# Altium integrated library Micron Memory Parallel NOR Flash.IntLib: 720 symbols (part 192 of 216)
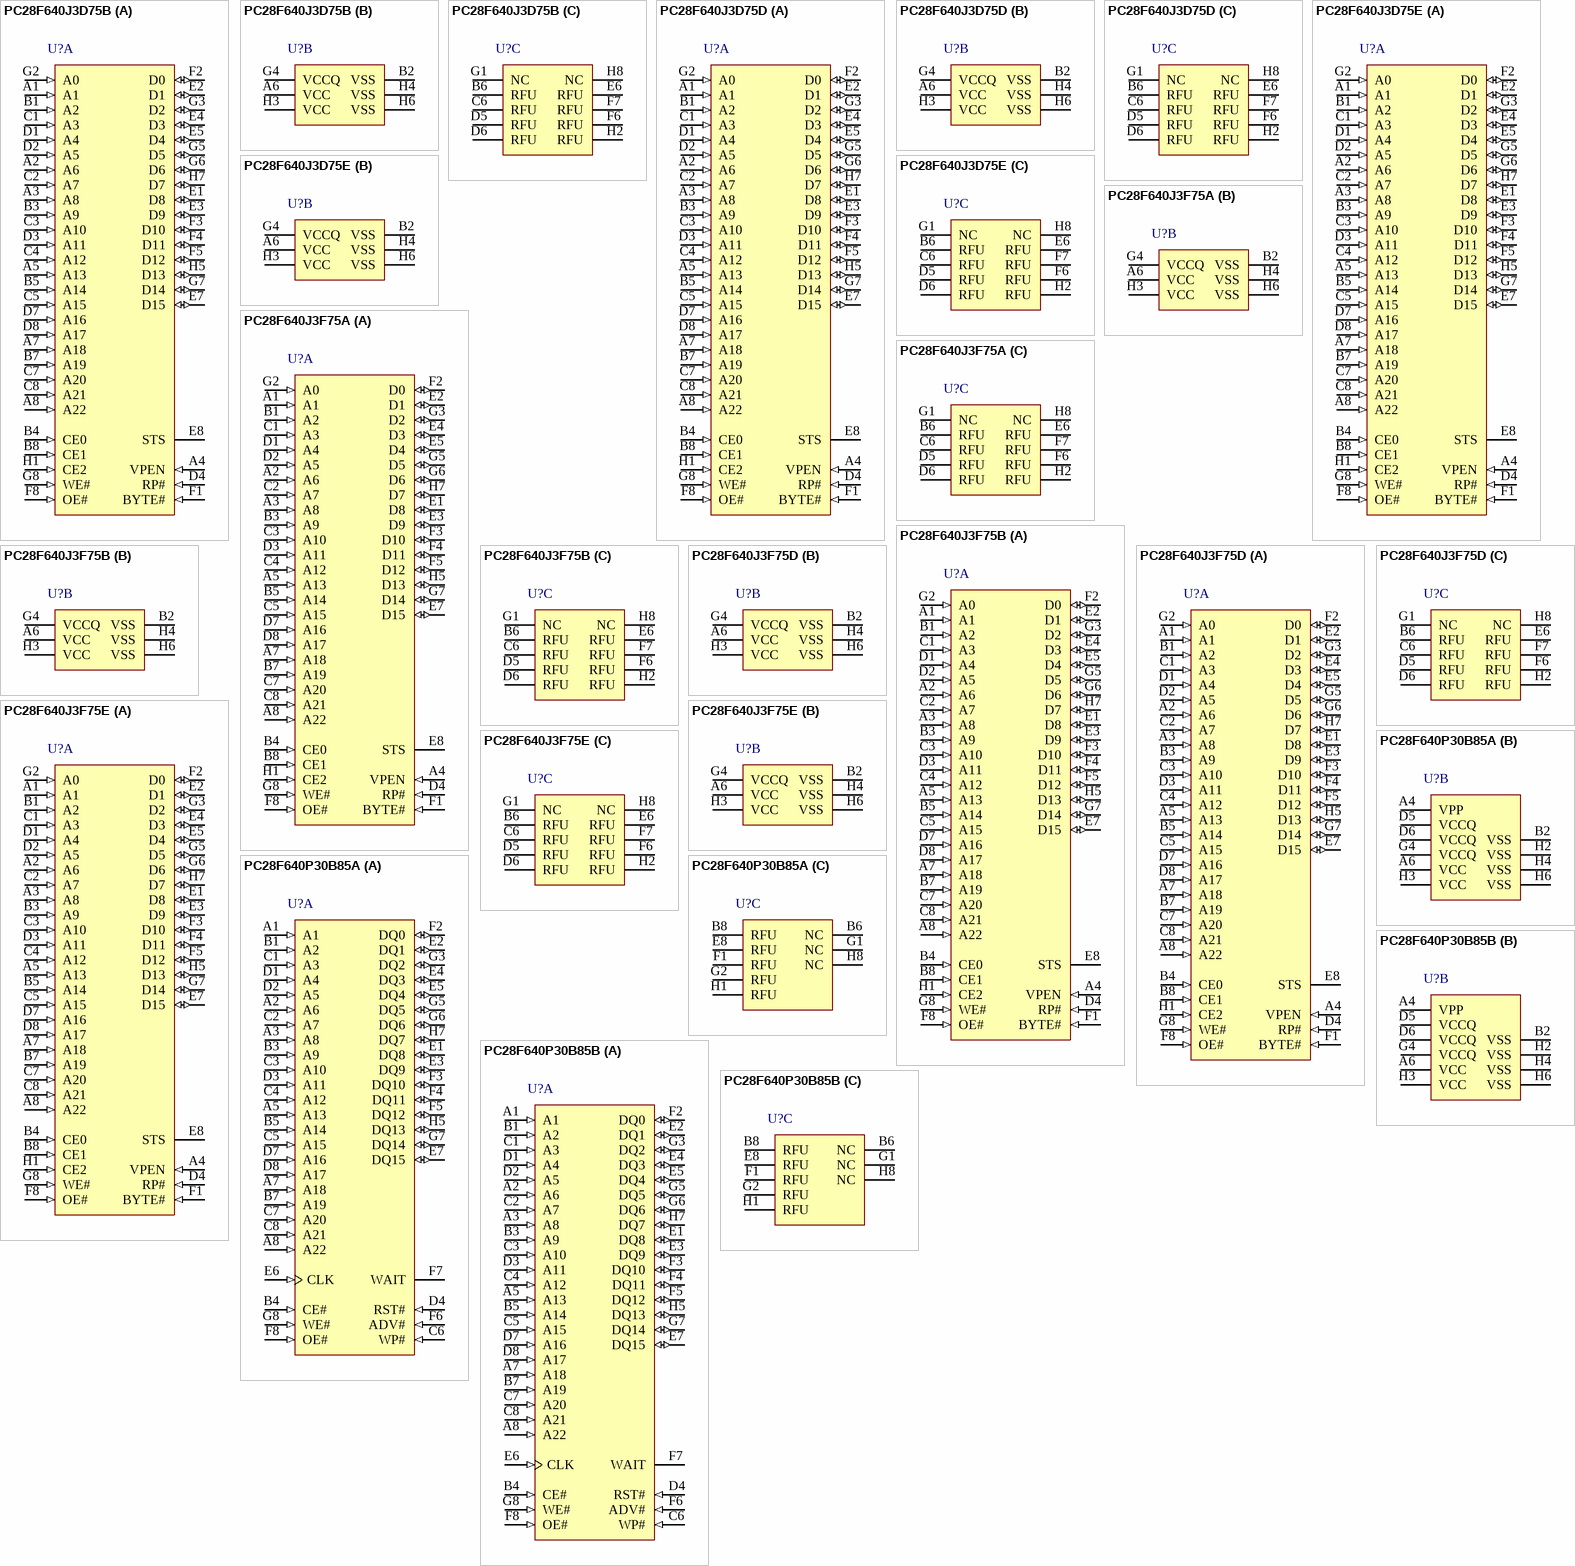
[diagram p222: symbols PC28F640J3D75B to PC28F640P30B85B]

## PC28F640J3F75A
designator U?
64 Mb (x8/x16) Parallel NOR Flash Memory, 75 ns, 2.7 to 3.6 V, 64-ball Easy BGA (PC), Tray; Part Family: J3; Manufacturer: Micron; PartNumber: PC28F640J3F75A; Density: 64Mb; Op Temp: -40C to +85C; Speed: 75ns; Voltage: 2.7V-3.6V; DatasheetVersion: Rev. 03; PackageVersion: Rev. 10; PackageReference: MICT-PC-64-13000X10000X1200DEA; PackageDescription: 64-Ball BGA, 13 x 10 mm, Pitch 1 mm; RoHS: Yes; Width: x8/x16; Mounting Technology: Surface Mount; ComponentLink1Description: Manufacturer URL; ComponentLink1URL: http://www.micron.com/; ComponentLink2Description: Datasheet; ComponentLink2URL: http://www.micron.com/~/media/Documents/Products/Data%20Sheet/NOR%20Flash/Parallel/J3/208032_J3_65_SBC_DS.pdf; ComponentLink3Description: Package Specification; ComponentLink3URL: http://www.micron.com/~/media/Documents/Products/Data%20Sheet/NOR%20Flash/Parallel/J3/316577_J3D_Monolithic_DS.pdf
footprint MICT-PC-64-13000X10000X1200DEA (BGA, 64-Balls, Body 13x10mm, Pitch 1mm)
part A pins: A1 (in) "ADDRESS INPUTS: Inputs for addresses during read and program operations. Addresses are internally latched during a program cycle: 32-Mbit -- A[21:1] 64-Mbit-- A[22:1] 128-Mbit -- A[23:1] 256-Mbit -- A[24:1]", A2 A6 (in) "ADDRESS INPUTS: Inputs for addresses during read and program operations. Addresses are internally latched during a program cycle: 32-Mbit -- A[21:1] 64-Mbit-- A[22:1] 128-Mbit -- A[23:1] 256-Mbit -- A[24:1]", A3 A8 (in) "ADDRESS INPUTS: Inputs for addresses during read and program operations. Addresses are internally latched during a program cycle: 32-Mbit -- A[21:1] 64-Mbit-- A[22:1] 128-Mbit -- A[23:1] 256-Mbit -- A[24:1]", A4 VPEN (in) "ERASE / PROGRAM / BLOCK LOCK ENABLE: For erasing array blocks, programming data, or configuring lock-bits. With VPEN =< VPENLK, memory contents cannot be altered.", A5 A13 (in) "ADDRESS INPUTS: Inputs for addresses during read and program operations. Addresses are internally latched during a program cycle: 32-Mbit -- A[21:1] 64-Mbit-- A[22:1] 128-Mbit -- A[23:1] 256-Mbit -- A[24:1]", A7 A18 (in) "ADDRESS INPUTS: Inputs for addresses during read and program operations. Addresses are internally latched during a program cycle: 32-Mbit -- A[21:1] 64-Mbit-- A[22:1] 128-Mbit -- A[23:1] 256-Mbit -- A[24:1]", A8 A22 (in) "ADDRESS INPUTS: Inputs for addresses during read and program operations. Addresses are internally latched during a program cycle: 32-Mbit -- A[21:1] 64-Mbit-- A[22:1] 128-Mbit -- A[23:1] 256-Mbit -- A[24:1]", B1 A2 (in) "ADDRESS INPUTS: Inputs for addresses during read and program operations. Addresses are internally latched during a program cycle: 32-Mbit -- A[21:1] 64-Mbit-- A[22:1] 128-Mbit -- A[23:1] 256-Mbit -- A[24:1]", B3 A9 (in) "ADDRESS INPUTS: Inputs for addresses during read and program operations. Addresses are internally latched during a program cycle: 32-Mbit -- A[21:1] 64-Mbit-- A[22:1] 128-Mbit -- A[23:1] 256-Mbit -- A[24:1]", B4 CE0 (in) "CHIP ENABLE: Activate the 32-, 64-, 128-, and 256-Mbit devices’ control logic, input buffers, decoders, and sense amplifiers. When the device is de-selected (see Table 16, “Chip Enable Truth Table for 32-, 64-, 128- and (See Datasheet)", B5 A14 (in) "ADDRESS INPUTS: Inputs for addresses during read and program operations. Addresses are internally latched during a program cycle: 32-Mbit -- A[21:1] 64-Mbit-- A[22:1] 128-Mbit -- A[23:1] 256-Mbit -- A[24:1]", B7 A19 (in) "ADDRESS INPUTS: Inputs for addresses during read and program operations. Addresses are internally latched during a program cycle: 32-Mbit -- A[21:1] 64-Mbit-- A[22:1] 128-Mbit -- A[23:1] 256-Mbit -- A[24:1]", B8 CE1 (in) "CHIP ENABLE: Activate the 32-, 64-, 128-, and 256-Mbit devices’ control logic, input buffers, decoders, and sense amplifiers. When the device is de-selected (see Table 16, “Chip Enable Truth Table for 32-, 64-, 128- and (See Datasheet)", C1 A3 (in) "ADDRESS INPUTS: Inputs for addresses during read and program operations. Addresses are internally latched during a program cycle: 32-Mbit -- A[21:1] 64-Mbit-- A[22:1] 128-Mbit -- A[23:1] 256-Mbit -- A[24:1]", C2 A7 (in) "ADDRESS INPUTS: Inputs for addresses during read and program operations. Addresses are internally latched during a program cycle: 32-Mbit -- A[21:1] 64-Mbit-- A[22:1] 128-Mbit -- A[23:1] 256-Mbit -- A[24:1]", C3 A10 (in) "ADDRESS INPUTS: Inputs for addresses during read and program operations. Addresses are internally latched during a program cycle: 32-Mbit -- A[21:1] 64-Mbit-- A[22:1] 128-Mbit -- A[23:1] 256-Mbit -- A[24:1]", C4 A12 (in) "ADDRESS INPUTS: Inputs for addresses during read and program operations. Addresses are internally latched during a program cycle: 32-Mbit -- A[21:1] 64-Mbit-- A[22:1] 128-Mbit -- A[23:1] 256-Mbit -- A[24:1]", C5 A15 (in) "ADDRESS INPUTS: Inputs for addresses during read and program operations. Addresses are internally latched during a program cycle: 32-Mbit -- A[21:1] 64-Mbit-- A[22:1] 128-Mbit -- A[23:1] 256-Mbit -- A[24:1]", C7 A20 (in) "ADDRESS INPUTS: Inputs for addresses during read and program operations. Addresses are internally latched during a program cycle: 32-Mbit -- A[21:1] 64-Mbit-- A[22:1] 128-Mbit -- A[23:1] 256-Mbit -- A[24:1]", C8 A21 (in) "ADDRESS INPUTS: Inputs for addresses during read and program operations. Addresses are internally latched during a program cycle: 32-Mbit -- A[21:1] 64-Mbit-- A[22:1] 128-Mbit -- A[23:1] 256-Mbit -- A[24:1]", D1 A4 (in) "ADDRESS INPUTS: Inputs for addresses during read and program operations. Addresses are internally latched during a program cycle: 32-Mbit -- A[21:1] 64-Mbit-- A[22:1] 128-Mbit -- A[23:1] 256-Mbit -- A[24:1]", D2 A5 (in) "ADDRESS INPUTS: Inputs for addresses during read and program operations. Addresses are internally latched during a program cycle: 32-Mbit -- A[21:1] 64-Mbit-- A[22:1] 128-Mbit -- A[23:1] 256-Mbit -- A[24:1]", D3 A11 (in) "ADDRESS INPUTS: Inputs for addresses during read and program operations. Addresses are internally latched during a program cycle: 32-Mbit -- A[21:1] 64-Mbit-- A[22:1] 128-Mbit -- A[23:1] 256-Mbit -- A[24:1]", D4 RP# (in) "RESET: RP#-low resets internal automation and puts the device in power-down mode. RP#-high enables normal operation. Exit from reset sets the device to read array mode. When driven low, RP# inhibits write operations which (See Datasheet)", D7 A16 (in) "ADDRESS INPUTS: Inputs for addresses during read and program operations. Addresses are internally latched during a program cycle: 32-Mbit -- A[21:1] 64-Mbit-- A[22:1] 128-Mbit -- A[23:1] 256-Mbit -- A[24:1]", D8 A17 (in) "ADDRESS INPUTS: Inputs for addresses during read and program operations. Addresses are internally latched during a program cycle: 32-Mbit -- A[21:1] 64-Mbit-- A[22:1] 128-Mbit -- A[23:1] 256-Mbit -- A[24:1]", E1 D8 (io) "HIGH-BYTE DATA BUS: Inputs data during x16 buffer writes and programming operations. Outputs array, CFI, or identifier data in the appropriate read mode; not used for Status Register reads. Data is internally latched during (See Datasheet)", E2 D1 (io) "LOW-BYTE DATA BUS: Inputs data during buffer writes and programming, and inputs commands during CUI writes. Outputs array, CFI, identifier, or status data in the appropriate read mode. Data is internally latched during write (See Datasheet)", E3 D9 (io) "HIGH-BYTE DATA BUS: Inputs data during x16 buffer writes and programming operations. Outputs array, CFI, or identifier data in the appropriate read mode; not used for Status Register reads. Data is internally latched during (See Datasheet)", E4 D3 (io) "LOW-BYTE DATA BUS: Inputs data during buffer writes and programming, and inputs commands during CUI writes. Outputs array, CFI, identifier, or status data in the appropriate read mode. Data is internally latched during write (See Datasheet)", E5 D4 (io) "LOW-BYTE DATA BUS: Inputs data during buffer writes and programming, and inputs commands during CUI writes. Outputs array, CFI, identifier, or status data in the appropriate read mode. Data is internally latched during write (See Datasheet)", E7 D15 (io) "HIGH-BYTE DATA BUS: Inputs data during x16 buffer writes and programming operations. Outputs array, CFI, or identifier data in the appropriate read mode; not used for Status Register reads. Data is internally latched during (See Datasheet)", E8 STS (hiz) "STATUS: Indicates the status of the internal state machine. When configured in level mode (default), it acts as a RY/BY# signal. When configured in one of its pulse modes, it can pulse to indicate program and/or erase (See Datasheet)", F1 BYTE# (in) "BYTE ENABLE: BYTE#-low places the device in x8 mode; data is input or output on D[7:0], while D[15:8] is placed in High-Z. Address A0 selects between the high and low byte. BYTE#-high places the device in x16 mode, and turns (See Datasheet)", F2 D0 (io) "LOW-BYTE DATA BUS: Inputs data during buffer writes and programming, and Inputs commands during CUI writes. Outputs array, CFI, identifier, or status data in the appropriate read mode. Data is internally latched during write (See Datasheet)", F3 D10 (io) "HIGH-BYTE DATA BUS: Inputs data during x16 buffer writes and programming operations. Outputs array, CFI, or identifier data in the appropriate read mode; not used for Status Register reads. Data is internally latched during (See Datasheet)", F4 D11 (io) "HIGH-BYTE DATA BUS: Inputs data during x16 buffer writes and programming operations. Outputs array, CFI, or identifier data in the appropriate read mode; not used for Status Register reads. Data is internally latched during (See Datasheet)", F5 D12 (io) "HIGH-BYTE DATA BUS: Inputs data during x16 buffer writes and programming operations. Outputs array, CFI, or identifier data in the appropriate read mode; not used for Status Register reads. Data is internally latched during (See Datasheet)", F8 OE# (in) "OUTPUT ENABLE: Activates the device’s outputs through the data buffers during a read cycle. OE# is active low.", G2 A0 (in) "BYTE-SELECT ADDRESS: Selects between high and low byte when the device is in x8 mode. This address is latched during a x8 program cycle. Not used in x16 mode (i.e., the A0 input buffer is turned off when BYTE# is high).", G3 D2 (io) "LOW-BYTE DATA BUS: Inputs data during buffer writes and programming, and inputs commands during CUI writes. Outputs array, CFI, identifier, or status data in the appropriate read mode. Data is internally latched during write (See Datasheet)", G5 D5 (io) "LOW-BYTE DATA BUS: Inputs data during buffer writes and programming, and inputs commands during CUI writes. Outputs array, CFI, identifier, or status data in the appropriate read mode. Data is internally latched during write (See Datasheet)", G6 D6 (io) "LOW-BYTE DATA BUS: Inputs data during buffer writes and programming, and inputs commands during CUI writes. Outputs array, CFI, identifier, or status data in the appropriate read mode. Data is internally latched during write (See Datasheet)", G7 D14 (io) "HIGH-BYTE DATA BUS: Inputs data during x16 buffer writes and programming operations. Outputs array, CFI, or identifier data in the appropriate read mode; not used for Status Register reads. Data is internally latched during (See Datasheet)", G8 WE# (in) "WRITE ENABLE: Controls writes to the CUI, the Write Buffer, and array blocks. WE# is active low.Addresses and data are latched on the rising edge of WE#.", H1 CE2 (in) "CHIP ENABLE: Activate the 32-, 64-, 128-, and 256-Mbit devices’ control logic, input buffers, decoders, and sense amplifiers. When the device is de-selected (see Table 16, “Chip Enable Truth Table for 32-, 64-, 128- and (See Datasheet)", H5 D13 (io) "HIGH-BYTE DATA BUS: Inputs data during x16 buffer writes and programming operations. Outputs array, CFI, or identifier data in the appropriate read mode; not used for Status Register reads. Data is internally latched during (See Datasheet)", H7 D7 (io) "LOW-BYTE DATA BUS: Inputs data during buffer writes and programming, and inputs commands during CUI writes. Outputs array, CFI, identifier, or status data in the appropriate read mode. Data is internally latched during write (See Datasheet)"
part B pins: A6 VCC (power) "CORE Power Supply: Core (logic) source voltage. Writes to the flash array are inhibited when VCC =< Vlko. Caution: Device operation at invalid Vcc voltages should not be attempted.", B2 VSS (power) "GROUND: Ground reference for device logic voltages. Connect to system ground.", G4 VCCQ (power) "I/O Power Supply: Power supply for Input/Output buffers.This ball can be tied directly to VCC.", H3 VCC (power) "CORE Power Supply: Core (logic) source voltage. Writes to the flash array are inhibited when VCC =< Vlko. Caution: Device operation at invalid Vcc voltages should not be attempted.", H4 VSS (power) "GROUND: Ground reference for device logic voltages. Connect to system ground.", H6 VSS (power) "GROUND: Ground reference for device logic voltages. Connect to system ground."
part C pins: B6 RFU "Reserved for Future Use: Balls designated as RFU are reserved by Numonyx for future device functionality and enhancement.", C6 RFU "Reserved for Future Use: Balls designated as RFU are reserved by Numonyx for future device functionality and enhancement.", D5 RFU "Reserved for Future Use: Balls designated as RFU are reserved by Numonyx for future device functionality and enhancement.", D6 RFU "Reserved for Future Use: Balls designated as RFU are reserved by Numonyx for future device functionality and enhancement.", E6 RFU "Reserved for Future Use: Balls designated as RFU are reserved by Numonyx for future device functionality and enhancement.", F6 RFU "Reserved for Future Use: Balls designated as RFU are reserved by Numonyx for future device functionality and enhancement.", F7 RFU "Reserved for Future Use: Balls designated as RFU are reserved by Numonyx for future device functionality and enhancement.", G1 NC "No Connect: Lead is not internally connected; it may be driven or floated.", H2 RFU "Reserved for Future Use: Balls designated as RFU are reserved by Numonyx for future device functionality and enhancement.", H8 NC "No Connect: Lead is not internally connected; it may be driven or floated."

## PC28F640J3F75B
designator U?
64 Mb (x8/x16) Parallel NOR Flash Memory, 75 ns, 2.7 to 3.6 V, 64-ball Easy BGA (PC), Tape & Reel; Part Family: J3; Manufacturer: Micron; PartNumber: PC28F640J3F75B; Density: 64Mb; Op Temp: -40C to +85C; Speed: 75ns; Voltage: 2.7V-3.6V; DatasheetVersion: Rev. 03; PackageVersion: Rev. 10; PackageReference: MICT-PC-64-13000X10000X1200DEA; PackageDescription: 64-Ball BGA, 13 x 10 mm, Pitch 1 mm; RoHS: Yes; Width: x8/x16; Mounting Technology: Surface Mount; ComponentLink1Description: Manufacturer URL; ComponentLink1URL: http://www.micron.com/; ComponentLink2Description: Datasheet; ComponentLink2URL: http://www.micron.com/~/media/Documents/Products/Data%20Sheet/NOR%20Flash/Parallel/J3/208032_J3_65_SBC_DS.pdf; ComponentLink3Description: Package Specification; ComponentLink3URL: http://www.micron.com/~/media/Documents/Products/Data%20Sheet/NOR%20Flash/Parallel/J3/316577_J3D_Monolithic_DS.pdf
footprint MICT-PC-64-13000X10000X1200DEA (BGA, 64-Balls, Body 13x10mm, Pitch 1mm)
part A pins: A1 (in) "ADDRESS INPUTS: Inputs for addresses during read and program operations. Addresses are internally latched during a program cycle: 32-Mbit -- A[21:1] 64-Mbit-- A[22:1] 128-Mbit -- A[23:1] 256-Mbit -- A[24:1]", A2 A6 (in) "ADDRESS INPUTS: Inputs for addresses during read and program operations. Addresses are internally latched during a program cycle: 32-Mbit -- A[21:1] 64-Mbit-- A[22:1] 128-Mbit -- A[23:1] 256-Mbit -- A[24:1]", A3 A8 (in) "ADDRESS INPUTS: Inputs for addresses during read and program operations. Addresses are internally latched during a program cycle: 32-Mbit -- A[21:1] 64-Mbit-- A[22:1] 128-Mbit -- A[23:1] 256-Mbit -- A[24:1]", A4 VPEN (in) "ERASE / PROGRAM / BLOCK LOCK ENABLE: For erasing array blocks, programming data, or configuring lock-bits. With VPEN =< VPENLK, memory contents cannot be altered.", A5 A13 (in) "ADDRESS INPUTS: Inputs for addresses during read and program operations. Addresses are internally latched during a program cycle: 32-Mbit -- A[21:1] 64-Mbit-- A[22:1] 128-Mbit -- A[23:1] 256-Mbit -- A[24:1]", A7 A18 (in) "ADDRESS INPUTS: Inputs for addresses during read and program operations. Addresses are internally latched during a program cycle: 32-Mbit -- A[21:1] 64-Mbit-- A[22:1] 128-Mbit -- A[23:1] 256-Mbit -- A[24:1]", A8 A22 (in) "ADDRESS INPUTS: Inputs for addresses during read and program operations. Addresses are internally latched during a program cycle: 32-Mbit -- A[21:1] 64-Mbit-- A[22:1] 128-Mbit -- A[23:1] 256-Mbit -- A[24:1]", B1 A2 (in) "ADDRESS INPUTS: Inputs for addresses during read and program operations. Addresses are internally latched during a program cycle: 32-Mbit -- A[21:1] 64-Mbit-- A[22:1] 128-Mbit -- A[23:1] 256-Mbit -- A[24:1]", B3 A9 (in) "ADDRESS INPUTS: Inputs for addresses during read and program operations. Addresses are internally latched during a program cycle: 32-Mbit -- A[21:1] 64-Mbit-- A[22:1] 128-Mbit -- A[23:1] 256-Mbit -- A[24:1]", B4 CE0 (in) "CHIP ENABLE: Activate the 32-, 64-, 128-, and 256-Mbit devices’ control logic, input buffers, decoders, and sense amplifiers. When the device is de-selected (see Table 16, “Chip Enable Truth Table for 32-, 64-, 128- and (See Datasheet)", B5 A14 (in) "ADDRESS INPUTS: Inputs for addresses during read and program operations. Addresses are internally latched during a program cycle: 32-Mbit -- A[21:1] 64-Mbit-- A[22:1] 128-Mbit -- A[23:1] 256-Mbit -- A[24:1]", B7 A19 (in) "ADDRESS INPUTS: Inputs for addresses during read and program operations. Addresses are internally latched during a program cycle: 32-Mbit -- A[21:1] 64-Mbit-- A[22:1] 128-Mbit -- A[23:1] 256-Mbit -- A[24:1]", B8 CE1 (in) "CHIP ENABLE: Activate the 32-, 64-, 128-, and 256-Mbit devices’ control logic, input buffers, decoders, and sense amplifiers. When the device is de-selected (see Table 16, “Chip Enable Truth Table for 32-, 64-, 128- and (See Datasheet)", C1 A3 (in) "ADDRESS INPUTS: Inputs for addresses during read and program operations. Addresses are internally latched during a program cycle: 32-Mbit -- A[21:1] 64-Mbit-- A[22:1] 128-Mbit -- A[23:1] 256-Mbit -- A[24:1]", C2 A7 (in) "ADDRESS INPUTS: Inputs for addresses during read and program operations. Addresses are internally latched during a program cycle: 32-Mbit -- A[21:1] 64-Mbit-- A[22:1] 128-Mbit -- A[23:1] 256-Mbit -- A[24:1]", C3 A10 (in) "ADDRESS INPUTS: Inputs for addresses during read and program operations. Addresses are internally latched during a program cycle: 32-Mbit -- A[21:1] 64-Mbit-- A[22:1] 128-Mbit -- A[23:1] 256-Mbit -- A[24:1]", C4 A12 (in) "ADDRESS INPUTS: Inputs for addresses during read and program operations. Addresses are internally latched during a program cycle: 32-Mbit -- A[21:1] 64-Mbit-- A[22:1] 128-Mbit -- A[23:1] 256-Mbit -- A[24:1]", C5 A15 (in) "ADDRESS INPUTS: Inputs for addresses during read and program operations. Addresses are internally latched during a program cycle: 32-Mbit -- A[21:1] 64-Mbit-- A[22:1] 128-Mbit -- A[23:1] 256-Mbit -- A[24:1]", C7 A20 (in) "ADDRESS INPUTS: Inputs for addresses during read and program operations. Addresses are internally latched during a program cycle: 32-Mbit -- A[21:1] 64-Mbit-- A[22:1] 128-Mbit -- A[23:1] 256-Mbit -- A[24:1]", C8 A21 (in) "ADDRESS INPUTS: Inputs for addresses during read and program operations. Addresses are internally latched during a program cycle: 32-Mbit -- A[21:1] 64-Mbit-- A[22:1] 128-Mbit -- A[23:1] 256-Mbit -- A[24:1]", D1 A4 (in) "ADDRESS INPUTS: Inputs for addresses during read and program operations. Addresses are internally latched during a program cycle: 32-Mbit -- A[21:1] 64-Mbit-- A[22:1] 128-Mbit -- A[23:1] 256-Mbit -- A[24:1]", D2 A5 (in) "ADDRESS INPUTS: Inputs for addresses during read and program operations. Addresses are internally latched during a program cycle: 32-Mbit -- A[21:1] 64-Mbit-- A[22:1] 128-Mbit -- A[23:1] 256-Mbit -- A[24:1]", D3 A11 (in) "ADDRESS INPUTS: Inputs for addresses during read and program operations. Addresses are internally latched during a program cycle: 32-Mbit -- A[21:1] 64-Mbit-- A[22:1] 128-Mbit -- A[23:1] 256-Mbit -- A[24:1]", D4 RP# (in) "RESET: RP#-low resets internal automation and puts the device in power-down mode. RP#-high enables normal operation. Exit from reset sets the device to read array mode. When driven low, RP# inhibits write operations which (See Datasheet)", D7 A16 (in) "ADDRESS INPUTS: Inputs for addresses during read and program operations. Addresses are internally latched during a program cycle: 32-Mbit -- A[21:1] 64-Mbit-- A[22:1] 128-Mbit -- A[23:1] 256-Mbit -- A[24:1]", D8 A17 (in) "ADDRESS INPUTS: Inputs for addresses during read and program operations. Addresses are internally latched during a program cycle: 32-Mbit -- A[21:1] 64-Mbit-- A[22:1] 128-Mbit -- A[23:1] 256-Mbit -- A[24:1]", E1 D8 (io) "HIGH-BYTE DATA BUS: Inputs data during x16 buffer writes and programming operations. Outputs array, CFI, or identifier data in the appropriate read mode; not used for Status Register reads. Data is internally latched during (See Datasheet)", E2 D1 (io) "LOW-BYTE DATA BUS: Inputs data during buffer writes and programming, and inputs commands during CUI writes. Outputs array, CFI, identifier, or status data in the appropriate read mode. Data is internally latched during write (See Datasheet)", E3 D9 (io) "HIGH-BYTE DATA BUS: Inputs data during x16 buffer writes and programming operations. Outputs array, CFI, or identifier data in the appropriate read mode; not used for Status Register reads. Data is internally latched during (See Datasheet)", E4 D3 (io) "LOW-BYTE DATA BUS: Inputs data during buffer writes and programming, and inputs commands during CUI writes. Outputs array, CFI, identifier, or status data in the appropriate read mode. Data is internally latched during write (See Datasheet)", E5 D4 (io) "LOW-BYTE DATA BUS: Inputs data during buffer writes and programming, and inputs commands during CUI writes. Outputs array, CFI, identifier, or status data in the appropriate read mode. Data is internally latched during write (See Datasheet)", E7 D15 (io) "HIGH-BYTE DATA BUS: Inputs data during x16 buffer writes and programming operations. Outputs array, CFI, or identifier data in the appropriate read mode; not used for Status Register reads. Data is internally latched during (See Datasheet)", E8 STS (hiz) "STATUS: Indicates the status of the internal state machine. When configured in level mode (default), it acts as a RY/BY# signal. When configured in one of its pulse modes, it can pulse to indicate program and/or erase (See Datasheet)", F1 BYTE# (in) "BYTE ENABLE: BYTE#-low places the device in x8 mode; data is input or output on D[7:0], while D[15:8] is placed in High-Z. Address A0 selects between the high and low byte. BYTE#-high places the device in x16 mode, and turns (See Datasheet)", F2 D0 (io) "LOW-BYTE DATA BUS: Inputs data during buffer writes and programming, and Inputs commands during CUI writes. Outputs array, CFI, identifier, or status data in the appropriate read mode. Data is internally latched during write (See Datasheet)", F3 D10 (io) "HIGH-BYTE DATA BUS: Inputs data during x16 buffer writes and programming operations. Outputs array, CFI, or identifier data in the appropriate read mode; not used for Status Register reads. Data is internally latched during (See Datasheet)", F4 D11 (io) "HIGH-BYTE DATA BUS: Inputs data during x16 buffer writes and programming operations. Outputs array, CFI, or identifier data in the appropriate read mode; not used for Status Register reads. Data is internally latched during (See Datasheet)", F5 D12 (io) "HIGH-BYTE DATA BUS: Inputs data during x16 buffer writes and programming operations. Outputs array, CFI, or identifier data in the appropriate read mode; not used for Status Register reads. Data is internally latched during (See Datasheet)", F8 OE# (in) "OUTPUT ENABLE: Activates the device’s outputs through the data buffers during a read cycle. OE# is active low.", G2 A0 (in) "BYTE-SELECT ADDRESS: Selects between high and low byte when the device is in x8 mode. This address is latched during a x8 program cycle. Not used in x16 mode (i.e., the A0 input buffer is turned off when BYTE# is high).", G3 D2 (io) "LOW-BYTE DATA BUS: Inputs data during buffer writes and programming, and inputs commands during CUI writes. Outputs array, CFI, identifier, or status data in the appropriate read mode. Data is internally latched during write (See Datasheet)", G5 D5 (io) "LOW-BYTE DATA BUS: Inputs data during buffer writes and programming, and inputs commands during CUI writes. Outputs array, CFI, identifier, or status data in the appropriate read mode. Data is internally latched during write (See Datasheet)", G6 D6 (io) "LOW-BYTE DATA BUS: Inputs data during buffer writes and programming, and inputs commands during CUI writes. Outputs array, CFI, identifier, or status data in the appropriate read mode. Data is internally latched during write (See Datasheet)", G7 D14 (io) "HIGH-BYTE DATA BUS: Inputs data during x16 buffer writes and programming operations. Outputs array, CFI, or identifier data in the appropriate read mode; not used for Status Register reads. Data is internally latched during (See Datasheet)", G8 WE# (in) "WRITE ENABLE: Controls writes to the CUI, the Write Buffer, and array blocks. WE# is active low.Addresses and data are latched on the rising edge of WE#.", H1 CE2 (in) "CHIP ENABLE: Activate the 32-, 64-, 128-, and 256-Mbit devices’ control logic, input buffers, decoders, and sense amplifiers. When the device is de-selected (see Table 16, “Chip Enable Truth Table for 32-, 64-, 128- and (See Datasheet)", H5 D13 (io) "HIGH-BYTE DATA BUS: Inputs data during x16 buffer writes and programming operations. Outputs array, CFI, or identifier data in the appropriate read mode; not used for Status Register reads. Data is internally latched during (See Datasheet)", H7 D7 (io) "LOW-BYTE DATA BUS: Inputs data during buffer writes and programming, and inputs commands during CUI writes. Outputs array, CFI, identifier, or status data in the appropriate read mode. Data is internally latched during write (See Datasheet)"
part B pins: A6 VCC (power) "CORE Power Supply: Core (logic) source voltage. Writes to the flash array are inhibited when VCC =< Vlko. Caution: Device operation at invalid Vcc voltages should not be attempted.", B2 VSS (power) "GROUND: Ground reference for device logic voltages. Connect to system ground.", G4 VCCQ (power) "I/O Power Supply: Power supply for Input/Output buffers.This ball can be tied directly to VCC.", H3 VCC (power) "CORE Power Supply: Core (logic) source voltage. Writes to the flash array are inhibited when VCC =< Vlko. Caution: Device operation at invalid Vcc voltages should not be attempted.", H4 VSS (power) "GROUND: Ground reference for device logic voltages. Connect to system ground.", H6 VSS (power) "GROUND: Ground reference for device logic voltages. Connect to system ground."
part C pins: B6 RFU "Reserved for Future Use: Balls designated as RFU are reserved by Numonyx for future device functionality and enhancement.", C6 RFU "Reserved for Future Use: Balls designated as RFU are reserved by Numonyx for future device functionality and enhancement.", D5 RFU "Reserved for Future Use: Balls designated as RFU are reserved by Numonyx for future device functionality and enhancement.", D6 RFU "Reserved for Future Use: Balls designated as RFU are reserved by Numonyx for future device functionality and enhancement.", E6 RFU "Reserved for Future Use: Balls designated as RFU are reserved by Numonyx for future device functionality and enhancement.", F6 RFU "Reserved for Future Use: Balls designated as RFU are reserved by Numonyx for future device functionality and enhancement.", F7 RFU "Reserved for Future Use: Balls designated as RFU are reserved by Numonyx for future device functionality and enhancement.", G1 NC "No Connect: Lead is not internally connected; it may be driven or floated.", H2 RFU "Reserved for Future Use: Balls designated as RFU are reserved by Numonyx for future device functionality and enhancement.", H8 NC "No Connect: Lead is not internally connected; it may be driven or floated."

## PC28F640J3F75D
designator U?
64 Mb (x8/x16) Parallel NOR Flash Memory, 75 ns, 2.7 to 3.6 V, 64-ball Easy BGA (PC), Tape & Reel; Part Family: J3; Manufacturer: Micron; PartNumber: PC28F640J3F75D; Density: 64Mb; Op Temp: -40C to +85C; Speed: 75ns; Voltage: 2.7V-3.6V; DatasheetVersion: Rev. 03; PackageVersion: Rev. 10; PackageReference: MICT-PC-64-13000X10000X1200DEA; PackageDescription: 64-Ball BGA, 13 x 10 mm, Pitch 1 mm; RoHS: Yes; Width: x8/x16; Mounting Technology: Surface Mount; ComponentLink1Description: Manufacturer URL; ComponentLink1URL: http://www.micron.com/; ComponentLink2Description: Datasheet; ComponentLink2URL: http://www.micron.com/~/media/Documents/Products/Data%20Sheet/NOR%20Flash/Parallel/J3/208032_J3_65_SBC_DS.pdf; ComponentLink3Description: Package Specification; ComponentLink3URL: http://www.micron.com/~/media/Documents/Products/Data%20Sheet/NOR%20Flash/Parallel/J3/316577_J3D_Monolithic_DS.pdf
footprint MICT-PC-64-13000X10000X1200DEA (BGA, 64-Balls, Body 13x10mm, Pitch 1mm)
part A pins: A1 (in) "ADDRESS INPUTS: Inputs for addresses during read and program operations. Addresses are internally latched during a program cycle: 32-Mbit -- A[21:1] 64-Mbit-- A[22:1] 128-Mbit -- A[23:1] 256-Mbit -- A[24:1]", A2 A6 (in) "ADDRESS INPUTS: Inputs for addresses during read and program operations. Addresses are internally latched during a program cycle: 32-Mbit -- A[21:1] 64-Mbit-- A[22:1] 128-Mbit -- A[23:1] 256-Mbit -- A[24:1]", A3 A8 (in) "ADDRESS INPUTS: Inputs for addresses during read and program operations. Addresses are internally latched during a program cycle: 32-Mbit -- A[21:1] 64-Mbit-- A[22:1] 128-Mbit -- A[23:1] 256-Mbit -- A[24:1]", A4 VPEN (in) "ERASE / PROGRAM / BLOCK LOCK ENABLE: For erasing array blocks, programming data, or configuring lock-bits. With VPEN =< VPENLK, memory contents cannot be altered.", A5 A13 (in) "ADDRESS INPUTS: Inputs for addresses during read and program operations. Addresses are internally latched during a program cycle: 32-Mbit -- A[21:1] 64-Mbit-- A[22:1] 128-Mbit -- A[23:1] 256-Mbit -- A[24:1]", A7 A18 (in) "ADDRESS INPUTS: Inputs for addresses during read and program operations. Addresses are internally latched during a program cycle: 32-Mbit -- A[21:1] 64-Mbit-- A[22:1] 128-Mbit -- A[23:1] 256-Mbit -- A[24:1]", A8 A22 (in) "ADDRESS INPUTS: Inputs for addresses during read and program operations. Addresses are internally latched during a program cycle: 32-Mbit -- A[21:1] 64-Mbit-- A[22:1] 128-Mbit -- A[23:1] 256-Mbit -- A[24:1]", B1 A2 (in) "ADDRESS INPUTS: Inputs for addresses during read and program operations. Addresses are internally latched during a program cycle: 32-Mbit -- A[21:1] 64-Mbit-- A[22:1] 128-Mbit -- A[23:1] 256-Mbit -- A[24:1]", B3 A9 (in) "ADDRESS INPUTS: Inputs for addresses during read and program operations. Addresses are internally latched during a program cycle: 32-Mbit -- A[21:1] 64-Mbit-- A[22:1] 128-Mbit -- A[23:1] 256-Mbit -- A[24:1]", B4 CE0 (in) "CHIP ENABLE: Activate the 32-, 64-, 128-, and 256-Mbit devices’ control logic, input buffers, decoders, and sense amplifiers. When the device is de-selected (see Table 16, “Chip Enable Truth Table for 32-, 64-, 128- and (See Datasheet)", B5 A14 (in) "ADDRESS INPUTS: Inputs for addresses during read and program operations. Addresses are internally latched during a program cycle: 32-Mbit -- A[21:1] 64-Mbit-- A[22:1] 128-Mbit -- A[23:1] 256-Mbit -- A[24:1]", B7 A19 (in) "ADDRESS INPUTS: Inputs for addresses during read and program operations. Addresses are internally latched during a program cycle: 32-Mbit -- A[21:1] 64-Mbit-- A[22:1] 128-Mbit -- A[23:1] 256-Mbit -- A[24:1]", B8 CE1 (in) "CHIP ENABLE: Activate the 32-, 64-, 128-, and 256-Mbit devices’ control logic, input buffers, decoders, and sense amplifiers. When the device is de-selected (see Table 16, “Chip Enable Truth Table for 32-, 64-, 128- and (See Datasheet)", C1 A3 (in) "ADDRESS INPUTS: Inputs for addresses during read and program operations. Addresses are internally latched during a program cycle: 32-Mbit -- A[21:1] 64-Mbit-- A[22:1] 128-Mbit -- A[23:1] 256-Mbit -- A[24:1]", C2 A7 (in) "ADDRESS INPUTS: Inputs for addresses during read and program operations. Addresses are internally latched during a program cycle: 32-Mbit -- A[21:1] 64-Mbit-- A[22:1] 128-Mbit -- A[23:1] 256-Mbit -- A[24:1]", C3 A10 (in) "ADDRESS INPUTS: Inputs for addresses during read and program operations. Addresses are internally latched during a program cycle: 32-Mbit -- A[21:1] 64-Mbit-- A[22:1] 128-Mbit -- A[23:1] 256-Mbit -- A[24:1]", C4 A12 (in) "ADDRESS INPUTS: Inputs for addresses during read and program operations. Addresses are internally latched during a program cycle: 32-Mbit -- A[21:1] 64-Mbit-- A[22:1] 128-Mbit -- A[23:1] 256-Mbit -- A[24:1]", C5 A15 (in) "ADDRESS INPUTS: Inputs for addresses during read and program operations. Addresses are internally latched during a program cycle: 32-Mbit -- A[21:1] 64-Mbit-- A[22:1] 128-Mbit -- A[23:1] 256-Mbit -- A[24:1]", C7 A20 (in) "ADDRESS INPUTS: Inputs for addresses during read and program operations. Addresses are internally latched during a program cycle: 32-Mbit -- A[21:1] 64-Mbit-- A[22:1] 128-Mbit -- A[23:1] 256-Mbit -- A[24:1]", C8 A21 (in) "ADDRESS INPUTS: Inputs for addresses during read and program operations. Addresses are internally latched during a program cycle: 32-Mbit -- A[21:1] 64-Mbit-- A[22:1] 128-Mbit -- A[23:1] 256-Mbit -- A[24:1]", D1 A4 (in) "ADDRESS INPUTS: Inputs for addresses during read and program operations. Addresses are internally latched during a program cycle: 32-Mbit -- A[21:1] 64-Mbit-- A[22:1] 128-Mbit -- A[23:1] 256-Mbit -- A[24:1]", D2 A5 (in) "ADDRESS INPUTS: Inputs for addresses during read and program operations. Addresses are internally latched during a program cycle: 32-Mbit -- A[21:1] 64-Mbit-- A[22:1] 128-Mbit -- A[23:1] 256-Mbit -- A[24:1]", D3 A11 (in) "ADDRESS INPUTS: Inputs for addresses during read and program operations. Addresses are internally latched during a program cycle: 32-Mbit -- A[21:1] 64-Mbit-- A[22:1] 128-Mbit -- A[23:1] 256-Mbit -- A[24:1]", D4 RP# (in) "RESET: RP#-low resets internal automation and puts the device in power-down mode. RP#-high enables normal operation. Exit from reset sets the device to read array mode. When driven low, RP# inhibits write operations which (See Datasheet)", D7 A16 (in) "ADDRESS INPUTS: Inputs for addresses during read and program operations. Addresses are internally latched during a program cycle: 32-Mbit -- A[21:1] 64-Mbit-- A[22:1] 128-Mbit -- A[23:1] 256-Mbit -- A[24:1]", D8 A17 (in) "ADDRESS INPUTS: Inputs for addresses during read and program operations. Addresses are internally latched during a program cycle: 32-Mbit -- A[21:1] 64-Mbit-- A[22:1] 128-Mbit -- A[23:1] 256-Mbit -- A[24:1]", E1 D8 (io) "HIGH-BYTE DATA BUS: Inputs data during x16 buffer writes and programming operations. Outputs array, CFI, or identifier data in the appropriate read mode; not used for Status Register reads. Data is internally latched during (See Datasheet)", E2 D1 (io) "LOW-BYTE DATA BUS: Inputs data during buffer writes and programming, and inputs commands during CUI writes. Outputs array, CFI, identifier, or status data in the appropriate read mode. Data is internally latched during write (See Datasheet)", E3 D9 (io) "HIGH-BYTE DATA BUS: Inputs data during x16 buffer writes and programming operations. Outputs array, CFI, or identifier data in the appropriate read mode; not used for Status Register reads. Data is internally latched during (See Datasheet)", E4 D3 (io) "LOW-BYTE DATA BUS: Inputs data during buffer writes and programming, and inputs commands during CUI writes. Outputs array, CFI, identifier, or status data in the appropriate read mode. Data is internally latched during write (See Datasheet)", E5 D4 (io) "LOW-BYTE DATA BUS: Inputs data during buffer writes and programming, and inputs commands during CUI writes. Outputs array, CFI, identifier, or status data in the appropriate read mode. Data is internally latched during write (See Datasheet)", E7 D15 (io) "HIGH-BYTE DATA BUS: Inputs data during x16 buffer writes and programming operations. Outputs array, CFI, or identifier data in the appropriate read mode; not used for Status Register reads. Data is internally latched during (See Datasheet)", E8 STS (hiz) "STATUS: Indicates the status of the internal state machine. When configured in level mode (default), it acts as a RY/BY# signal. When configured in one of its pulse modes, it can pulse to indicate program and/or erase (See Datasheet)", F1 BYTE# (in) "BYTE ENABLE: BYTE#-low places the device in x8 mode; data is input or output on D[7:0], while D[15:8] is placed in High-Z. Address A0 selects between the high and low byte. BYTE#-high places the device in x16 mode, and turns (See Datasheet)", F2 D0 (io) "LOW-BYTE DATA BUS: Inputs data during buffer writes and programming, and Inputs commands during CUI writes. Outputs array, CFI, identifier, or status data in the appropriate read mode. Data is internally latched during write (See Datasheet)", F3 D10 (io) "HIGH-BYTE DATA BUS: Inputs data during x16 buffer writes and programming operations. Outputs array, CFI, or identifier data in the appropriate read mode; not used for Status Register reads. Data is internally latched during (See Datasheet)", F4 D11 (io) "HIGH-BYTE DATA BUS: Inputs data during x16 buffer writes and programming operations. Outputs array, CFI, or identifier data in the appropriate read mode; not used for Status Register reads. Data is internally latched during (See Datasheet)", F5 D12 (io) "HIGH-BYTE DATA BUS: Inputs data during x16 buffer writes and programming operations. Outputs array, CFI, or identifier data in the appropriate read mode; not used for Status Register reads. Data is internally latched during (See Datasheet)", F8 OE# (in) "OUTPUT ENABLE: Activates the device’s outputs through the data buffers during a read cycle. OE# is active low.", G2 A0 (in) "BYTE-SELECT ADDRESS: Selects between high and low byte when the device is in x8 mode. This address is latched during a x8 program cycle. Not used in x16 mode (i.e., the A0 input buffer is turned off when BYTE# is high).", G3 D2 (io) "LOW-BYTE DATA BUS: Inputs data during buffer writes and programming, and inputs commands during CUI writes. Outputs array, CFI, identifier, or status data in the appropriate read mode. Data is internally latched during write (See Datasheet)", G5 D5 (io) "LOW-BYTE DATA BUS: Inputs data during buffer writes and programming, and inputs commands during CUI writes. Outputs array, CFI, identifier, or status data in the appropriate read mode. Data is internally latched during write (See Datasheet)", G6 D6 (io) "LOW-BYTE DATA BUS: Inputs data during buffer writes and programming, and inputs commands during CUI writes. Outputs array, CFI, identifier, or status data in the appropriate read mode. Data is internally latched during write (See Datasheet)", G7 D14 (io) "HIGH-BYTE DATA BUS: Inputs data during x16 buffer writes and programming operations. Outputs array, CFI, or identifier data in the appropriate read mode; not used for Status Register reads. Data is internally latched during (See Datasheet)", G8 WE# (in) "WRITE ENABLE: Controls writes to the CUI, the Write Buffer, and array blocks. WE# is active low.Addresses and data are latched on the rising edge of WE#.", H1 CE2 (in) "CHIP ENABLE: Activate the 32-, 64-, 128-, and 256-Mbit devices’ control logic, input buffers, decoders, and sense amplifiers. When the device is de-selected (see Table 16, “Chip Enable Truth Table for 32-, 64-, 128- and (See Datasheet)", H5 D13 (io) "HIGH-BYTE DATA BUS: Inputs data during x16 buffer writes and programming operations. Outputs array, CFI, or identifier data in the appropriate read mode; not used for Status Register reads. Data is internally latched during (See Datasheet)", H7 D7 (io) "LOW-BYTE DATA BUS: Inputs data during buffer writes and programming, and inputs commands during CUI writes. Outputs array, CFI, identifier, or status data in the appropriate read mode. Data is internally latched during write (See Datasheet)"
part B pins: A6 VCC (power) "CORE Power Supply: Core (logic) source voltage. Writes to the flash array are inhibited when VCC =< Vlko. Caution: Device operation at invalid Vcc voltages should not be attempted.", B2 VSS (power) "GROUND: Ground reference for device logic voltages. Connect to system ground.", G4 VCCQ (power) "I/O Power Supply: Power supply for Input/Output buffers.This ball can be tied directly to VCC.", H3 VCC (power) "CORE Power Supply: Core (logic) source voltage. Writes to the flash array are inhibited when VCC =< Vlko. Caution: Device operation at invalid Vcc voltages should not be attempted.", H4 VSS (power) "GROUND: Ground reference for device logic voltages. Connect to system ground.", H6 VSS (power) "GROUND: Ground reference for device logic voltages. Connect to system ground."
part C pins: B6 RFU "Reserved for Future Use: Balls designated as RFU are reserved by Numonyx for future device functionality and enhancement.", C6 RFU "Reserved for Future Use: Balls designated as RFU are reserved by Numonyx for future device functionality and enhancement.", D5 RFU "Reserved for Future Use: Balls designated as RFU are reserved by Numonyx for future device functionality and enhancement.", D6 RFU "Reserved for Future Use: Balls designated as RFU are reserved by Numonyx for future device functionality and enhancement.", E6 RFU "Reserved for Future Use: Balls designated as RFU are reserved by Numonyx for future device functionality and enhancement.", F6 RFU "Reserved for Future Use: Balls designated as RFU are reserved by Numonyx for future device functionality and enhancement.", F7 RFU "Reserved for Future Use: Balls designated as RFU are reserved by Numonyx for future device functionality and enhancement.", G1 NC "No Connect: Lead is not internally connected; it may be driven or floated.", H2 RFU "Reserved for Future Use: Balls designated as RFU are reserved by Numonyx for future device functionality and enhancement.", H8 NC "No Connect: Lead is not internally connected; it may be driven or floated."